# Altium schematic symbol library STM32F411CE.SchLib: 1 symbol
Pins are listed as number, name and electrical type; pins without a type are passive.

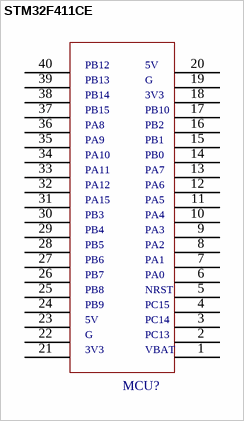
[diagram p0: symbol STM32F411CE]

## STM32F411CE
designator MCU?  (value not drawn)
footprint STM32F411CE
pins: 1 VBAT, 2 VBAT, 3 VBAT, 4 VBAT, 5 VBAT, 6 VBAT, 7 VBAT, 8 VBAT, 9 VBAT, 10 VBAT, 11 VBAT, 12 VBAT, 13 VBAT, 14 VBAT, 15 VBAT, 16 VBAT, 17 VBAT, 18 VBAT, 19 VBAT, 20 VBAT, 21 3v3, 22 G, 23 5V, 24 PB9, 25 PB8, 26 PB7, 27 PB6, 28 PB5, 29 PB4, 30 PB3, 31 PA15, 32 PA12, 33 PA11, 34 PA10, 35 PA9, 36 PA8, 37 PB15, 38 PB14, 39 PB13, 40 PB12
text: 3V3; PB10; PB2; PB1; PB0; PA7; PA6; PA5; PA4; PA3; PA2; PA1; PA0; NRST; PC15; PC14; PC13